# EAGLE library part DRV8871 (library balto)
DRV8871 3.6-A Brushed DC Motor Driver With Internal Current Sense (PWM Control)
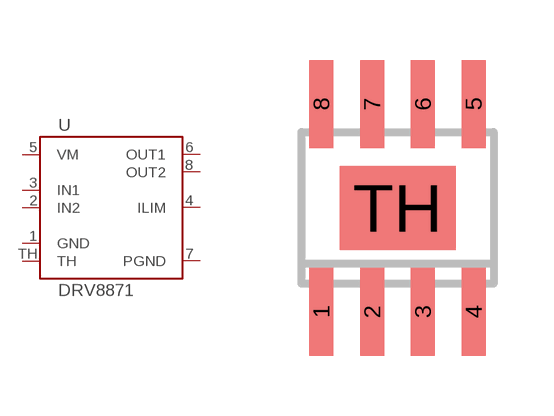
[diagram p51: symbol with the pads of SOIC8-POWERPAD; footprint SOIC8-POWERPAD]

Designator prefix U

## DRV8871  [SOIC8-POWERPAD]
1  GND
2  IN2
3  IN1
4  ILIM
5  VM
6  OUT1
7  PGND
8  OUT2
TH  TH

## Footprint SOIC8-POWERPAD (pad centres in mm)
Small Outline IC w/ PowerPAD
smd 0.6 x 2.2: 1 -1.905,-2.6; 2 -0.635,-2.6; 3 0.635,-2.6; 4 1.905,-2.6; 5 1.905,2.6; 6 0.635,2.6; 7 -0.635,2.6; 8 -1.905,2.6
smd 2.9 x 2.1: TH 0,0